# EAGLE library part 1432УД20 (library operational-amplifier)
АЕЯР.431100.280-13ТУ 1432УД20АУ, 1432УД20БУ – широкополосные операционные усилители с обратной связью по напряжению с rail-to-rail диапазонам входных и выходных напряжений во всем диапазоне напряжения питания с функцией выключено. Достоинства: ► Полоса пропускания 120 МГц ► Максимальная скорость нарастания выходного сигнала 120 В/мкс ► Ток потребления 7 мА ► Диапазон рабочих температур -60…+85 °С Основные электрические параметры, T=25 °C, Rн=1 кОм Параметр, единица измерения Условия Норма параметра Номинальное значение напряжения питания при однополярном при двухполярном Uп=3В Uп=5В Uп=±5В не менее не более не менее не более не менее не более Максимальное выходное напряжение, В Uвх=Uп от 0,45 до 2,7 - от 0,35 до 4,75 - от -4,45 до 4,6 - Напряжение смещения нуля, мВ Uвх=0 - 7 - 7 - 7 Ток потребления, мА Uвх=0 - 5,6 - 5,8 - 6,5 Ток потребления в состояние «выключено» , мА Uвх=0 - 1,5 - 1,7 - 2,2 Средний входной ток, мкА Uвх=0 - 3,2 - 3,2 - 3,2 Разность входных токов, мкА Uвх=0 - 0,6 - 0,5 - 0,6 Коэффициент усиления напряжения, В/мВ Uвых=2В 18 - 20 - 30 - Коэффициент ослабления синфазных входных напряжений, дБ 72 - 74 - 72 - Верхняя граничная частота полосы пропускания (-3дБ), МГц Uвых=0,5В Rн=0,1 кОм 120 - 130 - 140 - Максимальная скорость нарастания выходного напряжения, В/мкс Uвых=2 В 120 - 130 - 140 Время установления выходного напряжения (до уровня 0,1%), нс Uвых=2 В - 40 - 35 - 30 Производитель: ОАО «НПП «ПУЛЬСАР», г. Москва.
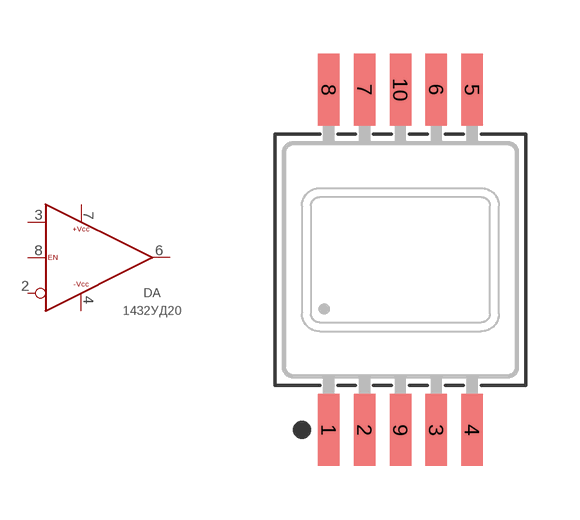
[diagram p11: symbol with the pads of H02.8-1B; footprint H02.8-1B]

Designator prefix DA

## 1432УД20АУ  [H02.8-1B]
2  IN-  in
3  IN+  in
4  -VCC  pwr
6  OUT  out
7  +VCC  pwr
8  EN  in

## 1432УД20БУ  [H02.8-1B]
Pads as for H02.8-1B

## Footprint H02.8-1B (pad centres in mm)
smd 0.6 x 2: 1 -2,-4.75; 2 -1,-4.75; 3 1,-4.75; 4 2,-4.75; 5 2,4.75; 6 1,4.75; 7 -1,4.75; 8 -2,4.75; 9 0,-4.75; 10 0,4.75